# EAGLE library part SIM868 (library dawidkulpa_dev)
Simcomm GPRS + GPS module
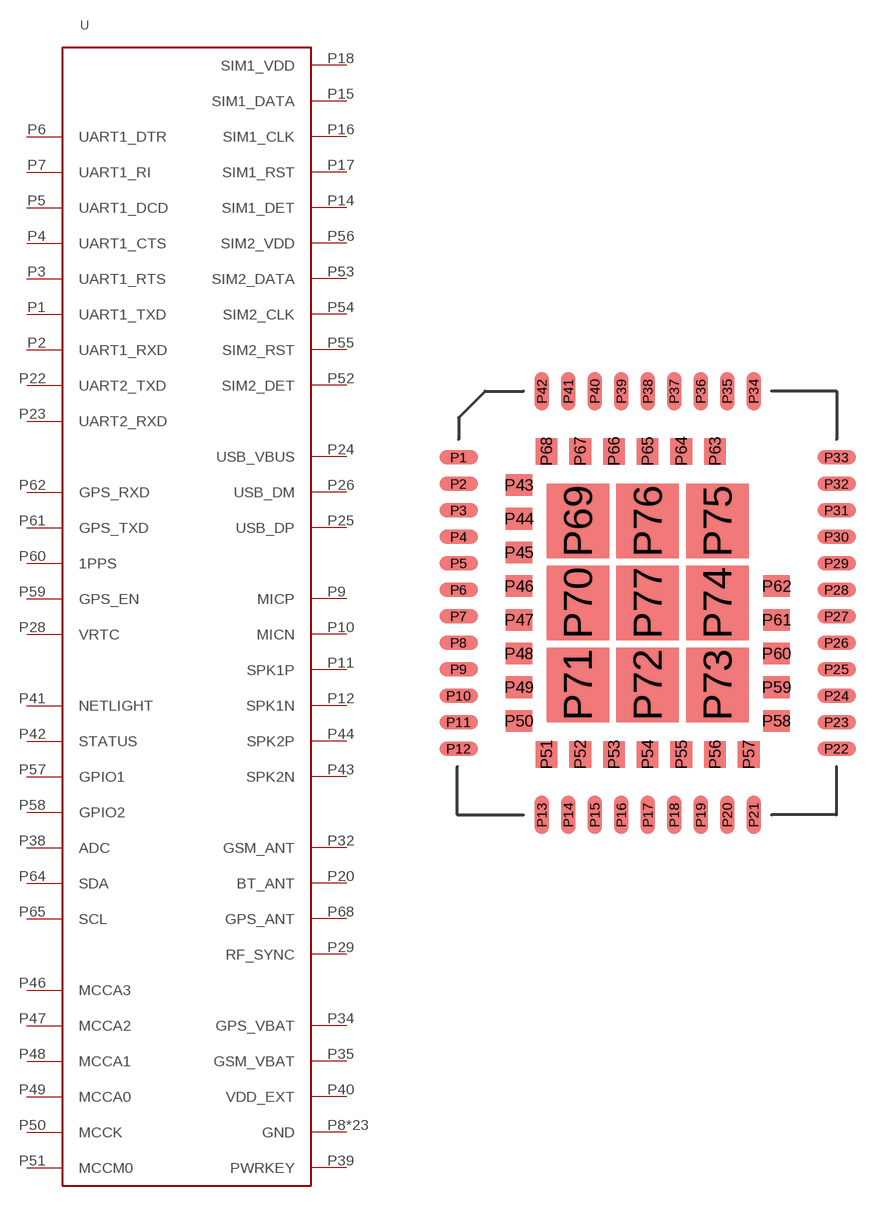
[diagram p7: symbol with the pads of SIM868; footprint SIM868]

Designator prefix -

## SIM868  [SIM868]
P1  UART1_TXD
P2  UART1_RXD
P3  UART1_RTS
P4  UART1_CTS
P5  UART1_DCD
P6  UART1_DTR
P7  UART1_RI
P8  GND
P9  MICP
P10  MICN
P11  SPK1P
P12  SPK1N
P13  GND
P14  SIM1_DET
P15  SIM1_DATA
P16  SIM1_CLK
P17  SIM1_RST
P18  SIM1_VDD
P19  GND
P20  BT_ANT
P21  GND
P22  UART2_TXD
P23  UART2_RXD
P24  USB_VBUS
P25  USB_DP
P26  USB_DM
P27  GND
P28  VRTC
P29  RF_SYNC
P30  GND
P31  GND
P32  GSM_ANT
P33  GND
P34  GPS_VBAT
P35  GSM_VBAT
P36  GND
P37  GND
P38  ADC
P39  PWRKEY
P40  VDD_EXT
P41  NETLIGHT
P42  STATUS
P43  SPK2N
P44  SPK2P
P45  GND
P46  MCCA3
P47  MCCA2
P48  MCCA1
P49  MCCA0
P50  MCCK
P51  MCCM0
P52  SIM2_DET
P53  SIM2_DATA
P54  SIM2_CLK
P55  SIM2_RST
P56  SIM2_VDD
P57  GPIO1
P58  GPIO2
P59  GPS_EN
P60  1PPS
P61  GPS_TXD
P62  GPS_RXD
P63  GND
P64  SDA
P65  SCL
P66  GND
P67  GND
P68  GPS_ANT
P69  GND
P70  GND
P71  GND
P72  GND
P73  GND
P74  GND
P75  GND
P76  GND
P77  GND

## Footprint SIM868 (pad centres in mm)
smd 1.6 x 0.6: P1 -7.85,6.05; P2 -7.85,4.95; P3 -7.85,3.85; P4 -7.85,2.75; P5 -7.85,1.65; P6 -7.85,0.55; P7 -7.85,-0.55; P8 -7.85,-1.65; P9 -7.85,-2.75; P10 -7.85,-3.85; P11 -7.85,-4.95; P12 -7.85,-6.05; P22 7.85,-6.05; P23 7.85,-4.95; P24 7.85,-3.85; P25 7.85,-2.75; P26 7.85,-1.65; P27 7.85,-0.55; P28 7.85,0.55; P29 7.85,1.65; P30 7.85,2.75; P31 7.85,3.85; P32 7.85,4.95; P33 7.85,6.05
smd 0.6 x 1.6: P13 -4.4,-8.8; P14 -3.3,-8.8; P15 -2.2,-8.8; P16 -1.1,-8.8; P17 0,-8.8; P18 1.1,-8.8; P19 2.2,-8.8; P20 3.3,-8.8; P21 4.4,-8.8; P34 4.4,8.8; P35 3.3,8.8; P36 2.2,8.8; P37 1.1,8.8; P38 0,8.8; P39 -1.1,8.8; P40 -2.2,8.8; P41 -3.3,8.8; P42 -4.4,8.8
smd 1.1 x 0.9: P43 -5.35,4.9; P44 -5.35,3.5; P45 -5.35,2.1; P46 -5.35,0.7; P47 -5.35,-0.7; P48 -5.35,-2.1; P49 -5.35,-3.5; P50 -5.35,-4.9; P58 5.35,-4.9; P59 5.35,-3.5; P60 5.35,-2.1; P61 5.35,-0.7; P62 5.35,0.7
smd 0.9 x 1.1: P51 -4.2,-6.3; P52 -2.8,-6.3; P53 -1.4,-6.3; P54 0,-6.3; P55 1.4,-6.3; P56 2.8,-6.3; P57 4.2,-6.3; P63 2.8,6.3; P64 1.4,6.3; P65 0,6.3; P66 -1.4,6.3; P67 -2.8,6.3; P68 -4.2,6.3
smd 2.6 x 3.1: P69 -2.9,3.4; P70 -2.9,0; P71 -2.9,-3.4; P72 0,-3.4; P73 2.9,-3.4; P74 2.9,0; P75 2.9,3.4; P76 0,3.4; P77 0,0